# EAGLE library part ARJE-0034_RJ45_WITH_MAGNETICS (library df4iah_connector)
Abracon ARJE-0034 RJ-45 Jack with internal magnetics and 2x LEDs SMT 16.10 x 13.87 x 25.68 mm Compliant with IEEE802.3 standard 350 uH minimum OCL with 8mA bias current
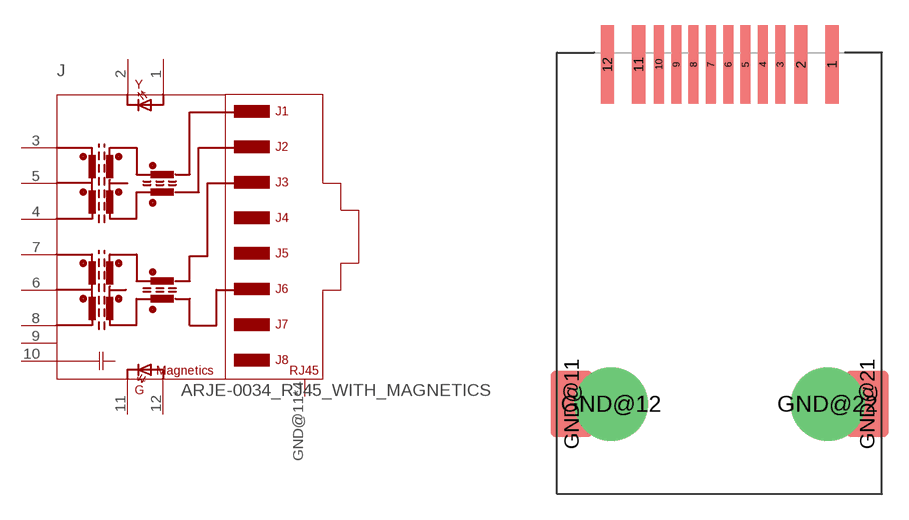
[diagram p36: symbol with the pads of ARJE-0034_RJ45_WITH_MAGNETICS; footprint ARJE-0034_RJ45_WITH_MAGNETICS]

Designator prefix J

## ARJE-0034_RJ45_WITH_MAGNETICS  [ARJE-0034_RJ45_WITH_MAGNETICS]
1  1  pas
2  2  pas
3  3  pas
4  4  pas
5  5  pas
6  6  pas
7  7  pas
8  8  pas
9  9  nc
10  10  pas
11  11  pas
12  12  pas
GND@11  13  pas
GND@12  13  pas
GND@21  13  pas
GND@22  13  pas

## Footprint ARJE-0034_RJ45_WITH_MAGNETICS (pad centres in mm)
Abracon ARJE-0034 RJ-45 Jack with internal magnetics and 2x LEDs SMT 16.10 x 13.87 x 25.68 mm Compliant with IEEE802.3 standard 350 uH minimum OCL with 8mA bias current
smd 0.813 x 4.597: 1 6.604,11.43; 2 4.775,11.43; 11 -4.75,11.43; 12 -6.579,11.43
smd 0.61 x 4.597: 3 3.556,11.43; 4 2.54,11.43; 5 1.524,11.43; 6 0.508,11.43; 7 -0.508,11.43; 8 -1.524,11.43; 9 -2.54,11.43; 10 -3.556,11.43
smd 2.489 x 3.912: GND@11 -8.674,-8.496; GND@21 8.674,-8.496
drill 3.3 pad 3.7: GND@12 -6.35,-8.496; GND@22 6.35,-8.496